# Altium schematic symbol library SR10S3V3_Schematic.SchLib: 8 symbols
Pins are listed as number, name and electrical type; pins without a type are passive.

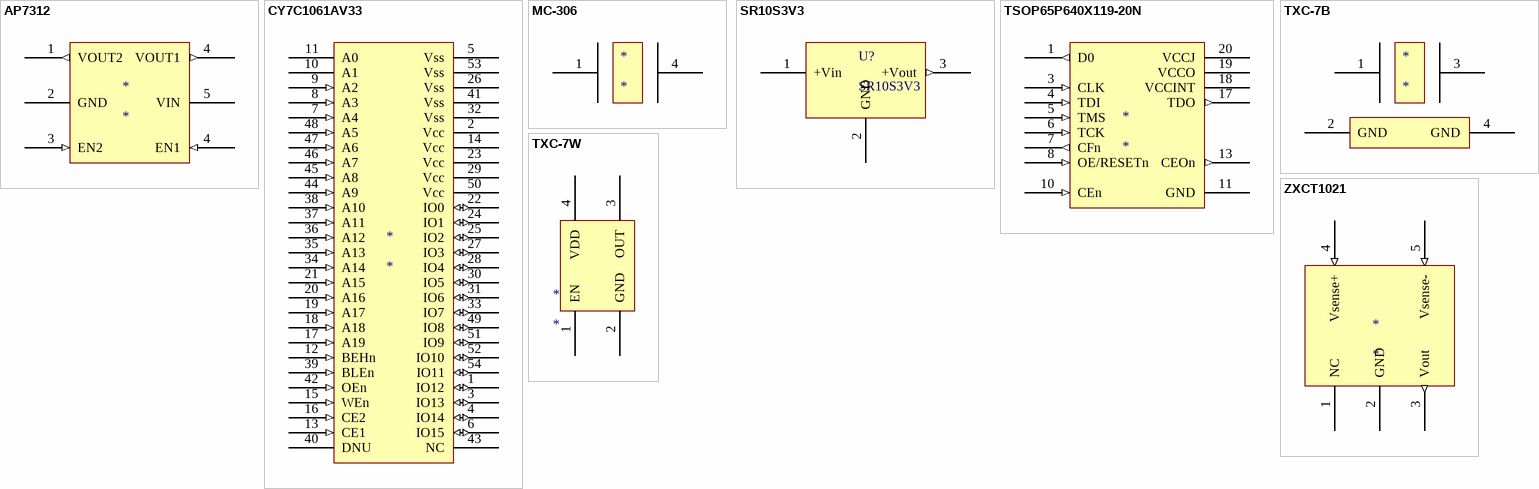
[diagram p0: symbols AP7312 to ZXCT1021]

## AP7312
designator *
footprint SOT95P285X145-6N (SOT23, 6-Leads, Body 3,00x2,85mm, Pitch 0,95mm, IPC Medium Density)
pins: 1 VOUT2 (out) "Voltage output 2. Bypass to ground through 1uF ceramic capacitor", 2 GND (power) "Ground", 3 EN2 (in) "Enable input 2, active high", 4 EN1 (in) "Enable input 1, active high", 4 VOUT1 (out), 5 VIN (power) "Voltage input. Bypass to ground through at least 1uF capacitor"

## CY7C1061AV33
designator *
footprint CY7C1061AV33 (TSOP, 54-Leads, Body 22,41x10,16mm, Pitch 0,80mm, IPC Medium Density)
pins: 1 IO12 (io), 2 Vcc (power), 3 IO13 (io), 4 IO14 (io), 5 Vss (power), 6 IO15 (io), 7 A4 (in), 8 A3 (in), 9 A2 (in), 10 A1, 11 A0, 12 BEHn (in), 13 CE1 (in), 14 Vcc (power), 15 WEn (in), 16 CE2 (in), 17 A19 (in), 18 A18 (in), 19 A17 (in), 20 A16 (in), 21 A15 (in), 22 IO0 (io), 23 Vcc (power), 24 IO1 (io), 25 IO2 (io), 26 Vss (power), 27 IO3 (io), 28 IO4 (io), 29 Vcc (power), 30 IO5 (io), 31 IO6 (io), 32 Vss (power), 33 IO7 (io), 34 A14 (in), 35 A13 (in), 36 A12 (in), 37 A11 (in), 38 A10 (in), 39 BLEn (in), 40 DNU, 41 Vss (power), 42 OEn (in), 43 NC, 44 A9 (in), 45 A8 (in), 46 A7 (in), 47 A6 (in), 48 A5 (in), 49 IO8 (io), 50 Vcc (power), 51 IO9 (io), 52 IO10 (io), 53 Vss (power), 54 IO11 (io)

## MC-306
designator *
footprint MC-306
pins: 1, 4

## SR10S3V3
designator U?
footprint SR10S3V3_Footprint
pins: 1 +Vin (power), 2 GND (power), 3 +Vout (out)

## TSOP65P640X119-20N
designator *
footprint TSOP65P640X119-20N (TSOP, 20-Leads, Body 6,50x4,38mm, Pitch 0,65mm, IPC Medium Density)
pins: 1 D0 (out) "D0 is the DATA output pin to provide data for configuring an   FPGA in serial mode", 3 CLK (in) "CLOCK", 4 TDI (in) "JTAG Serial Data Input", 5 TMS (in) "JTAG Mode Select Input", 6 TCK (in) "JTAG Clock Input", 7 CFn (out) "Configuration Pulse (Open-Drain Output)", 8 OE/RESETn (in) "Output Enable/Reset (Open-Drain I/O)", 10 CEn (in) "Chip Enable Input", 11 GND (power) "Ground", 13 CEOn (out) "Chip Enable Output", 17 TDO (out) "JTAG Serial Data Output", 18 VCCINT (power) "+3.3V Supply", 19 VCCO (power) "+3.3V, 2.5V, or 1.8V I/O Supply", 20 VCCJ (power) "+3.3V or 2.5V JTAG I/O Supply"

## TXC-7B
designator *
footprint TXC-7B
pins: 1, 2 GND, 3, 4 GND

## TXC-7W
designator *
footprint TXC-7W
pins: 1 EN, 2 GND, 3 OUT, 4 VDD

## ZXCT1021
designator *
footprint SOT95P270X145-5N (SOT23, 5-Leads, Body 2,90x2,70mm, Pitch 0,95mm, IPC Medium Density)
pins: 1 NC, 2 GND (power), 3 Vout (out), 4 Vsense+ (in), 5 Vsense- (in)